# Altium schematic symbol library RC0402FR-070RL.SchLib: 1 symbol
Pins are listed as number, name and electrical type; pins without a type are passive.

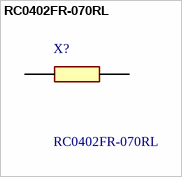
[diagram p0: symbol RC0402FR-070RL]

## RC0402FR-070RL
designator X?
YAGEO - RC0402FR-070RL - RES, 1A, 0.063W, THICK FILM, 0402; Geometry.Height: 0.4mm; Mouser Part Number: 603-RC0402FR-070RL; Mouser Price/Stock: https://www.mouser.co.uk/ProductDetail/YAGEO/RC0402FR-070RL?qs=sxZXDnvRBEhfSy4CZGX2ww%3D%3D; Manufacturer_Name: YAGEO; Manufacturer_Part_Number: RC0402FR-070RL; Datasheet Link: https://www.arrow.com/en/products/rc0402fr-070rl/yageo?region=europe
footprint RESC1005X40N
pins: 1, 2